# Altium schematic symbol library Cyberdeck.SchLib: 178 symbols (part 5 of 5)
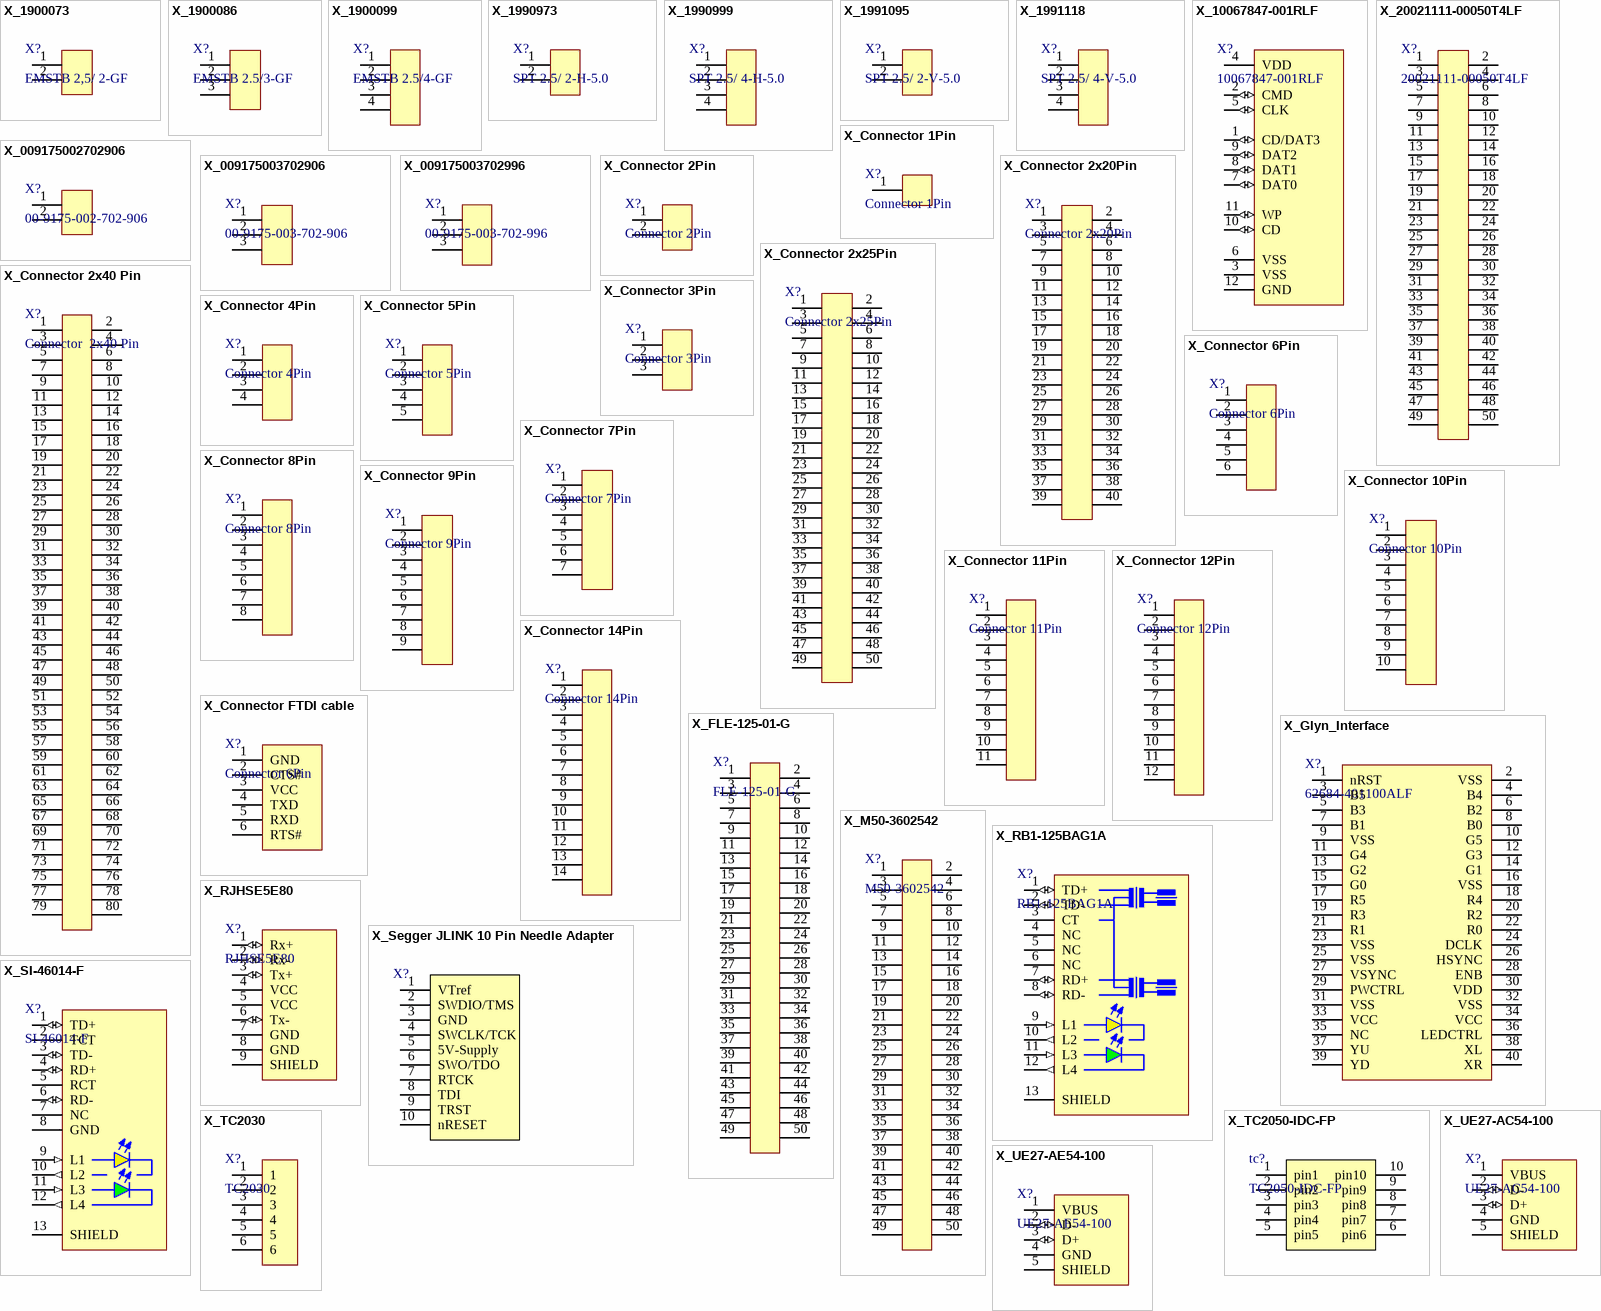
[diagram p9: symbols X_1900073 to X_UE27-AE54-100]

## X_UE27-AE54-100
designator X?, comment UE27-AE54-100
USB - A USB 2.0 Receptacle Connector 4 Position Through Hole, Vertical; Manufacturer 1: Amphenol; Supplier 1: Digi-Key; Supplier Part Number 1: UE27AE54100-ND; Manufacturer Part Number 1: UE27-AE54-100; ComponentLink1URL: https://datasheet.ciiva.com/23622/1682704-23622416.pdf; ComponentLink1Description: https://datasheet.ciiva.com/23622/1682704-23622416.pdf; ComponentLink2URL: https://datasheet.ciiva.com/851/ue27aex4x0x-851825.pdf; ComponentLink2Description: https://datasheet.ciiva.com/851/ue27aex4x0x-851825.pdf; ComponentLink3URL: https://datasheet.ciiva.com/4598/ue27aex4x0x-39597-4598819.pdf; ComponentLink3Description: https://datasheet.ciiva.com/4598/ue27aex4x0x-39597-4598819.pdf; ComponentLink4URL: https://datasheet.ciiva.com/16668/ue27aex4x0x-16668643.pdf; ComponentLink4Description: https://datasheet.ciiva.com/16668/ue27aex4x0x-16668643.pdf; ComponentLink5URL: https://datasheet.ciiva.com/3095/ue27aex4x0x-3095749.pdf; ComponentLink5Description: https://datasheet.ciiva.com/3095/ue27aex4x0x-3095749.pdf; ComponentLink6URL: https://datasheet.ciiva.com/8014/1682704-8014903.pdf; ComponentLink6Description: https://datasheet.ciiva.com/8014/1682704-8014903.pdf; ComponentLink7URL: https://datasheet.ciiva.com/16513/ue27aex4x0x-16513757.pdf; ComponentLink7Description: https://datasheet.ciiva.com/16513/ue27aex4x0x-16513757.pdf; Supplier 2: Digi-Key; Supplier Part Number 2: A121571-ND; ComponentLink8URL: https://datasheet.ciiva.com/16313/1734366-2-16313209.pdf; ComponentLink8Description: https://datasheet.ciiva.com/16313/1734366-2-16313209.pdf; ComponentLink9URL: https://datasheet.ciiva.com/851/eng-cd-1734366-c-851582.pdf; ComponentLink9Description: https://datasheet.ciiva.com/851/eng-cd-1734366-c-851582.pdf; Manufacturer 2: TE Connectivity; Manufacturer Part Number 2: 1734366-2; Supplier 3: Digi-Key; Supplier Part Number 3: 1175-1265-ND; Manufacturer 3: CNC Tech; Manufacturer Part Number 3: 1002-021-01000; ComponentLink10URL: https://datasheet.ciiva.com/6731/1002-021-01000-6731011.pdf; ComponentLink10Description: https://datasheet.ciiva.com/6731/1002-021-01000-6731011.pdf
footprint UE27AE54100
pins: 1 VBUS (power), 2 D- (io), 3 D+ (io), 4 GND (power), 5 SHIELD (power)

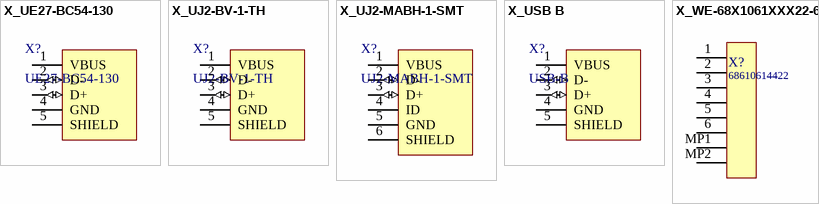
[diagram p5: symbols X_UE27-BC54-130 to X_WE-68X1061XXX22-6]

## X_UE27-BC54-130
designator X?, comment UE27-BC54-130
USB Connectors 4P PCB R/A TYPE B BLACK W/ REAR SHIELD; Manufacturer 1: Amphenol Commercial; Manufacturer Part Number 1: UE27-BC54-130; ComponentLink1URL: https://datasheet.ciiva.com/10945/ue27bcx4xxx-10945210.pdf; ComponentLink1Description: https://datasheet.ciiva.com/10945/ue27bcx4xxx-10945210.pdf; ComponentLink2URL: https://datasheet.ciiva.com/851/ue27bcx4xxx-851809.pdf; ComponentLink2Description: https://datasheet.ciiva.com/851/ue27bcx4xxx-851809.pdf; ComponentLink3URL: https://datasheet.ciiva.com/16668/ue27bcx4xxx-16668218.pdf; ComponentLink3Description: https://datasheet.ciiva.com/16668/ue27bcx4xxx-16668218.pdf; Supplier 1: Digi-Key; Supplier Part Number 1: UE27BC54130-ND
footprint UE27BC54130 (USB RCPT GOLD TYPE B R/A)
pins: 1 VBUS (power), 2 D- (io), 3 D+ (io), 4 GND (power), 5 SHIELD (power)

## X_UJ2-BV-1-TH
designator X?, comment UJ2-BV-1-TH
USB - B USB 2.0 Receptacle Connector 4 Position Through Hole, Vertical; Manufacturer: CUI; Supplier 1: Digi-Key; Supplier Part Number 1: 102-4000-ND; Manufacturer Part Number: UJ2-BV-1-TH; ComponentLink1URL: http://www.cui.com/product/resource/digikeypdf/uj2-bv-1-th.pdf; ComponentLink1Description: http://www.cui.com/product/resource/digikeypdf/uj2-bv-1-th.pdf
footprint UJ2-BV-1-TH
pins: 1 VBUS (power), 2 D- (io), 3 D+ (io), 4 GND (power), 5 SHIELD (power)

## X_UJ2-MABH-1-SMT
designator X?, comment UJ2-MABH-1-SMT
USB - mini AB USB 2.0 Receptacle Connector 5 Position Surface Mount, Right Angle, Horizontal; Manufacturer: CUI; Connector Type: Jack; Number of Contacts: 5; Supplier 1: Digi-Key; Supplier Part Number 1: 102-4004-2-ND; Manufacturer Part Number: UJ2-MABH-1-SMT; Stock 1: 725; Pricing 1: 1=0.84, 10=0.589, 100=0.3963, 750=0.2754, 1500=0.2295, 3750=0.20655, 5250=0.20349, 18750=0.19508, 37500=0.19125, 75000=0.18743 (USD); Mount: Surface Mount,Horizontal; Packaging: Tape and Reel; Gender: Receptacle; Orientation: Horizontal; Lead Free: Lead Free
footprint UJ2-MABH-SMT
pins: 1 VBUS (power), 2 D- (io), 3 D+ (io), 4 ID, 5 GND (power), 6 SHIELD (power)

## X_USB B
designator X?, comment USB-B
CONN COM TYPE B USB HORZ 4POS
footprint UE27BC54130 (USB RCPT GOLD TYPE B R/A)
pins: 1 VBUS (power), 2 D- (io), 3 D+ (io), 4 GND (power), 5 SHIELD (power)

## X_WE-68X1061XXX22-6
designator X?, comment 68610614422
SMT ZIF Connectors WR-FPC, Horizontal, Bottom Contact, pitch 1 mm, 6 pins; Manufacturer: Wurth Elektronik; Contact Resistance: 20mOhm; Rated Current: 1A; Pitch: 1mm; Withstanding Voltage: 500VAC; Working Voltage: 125VAC; Pin Number: 6; Operating Temperature: -25to85degC; Packaging: TapeandReel; Contact Design: BottomContact; Manufacturer URL: http://www.we-online.de; Part Number: 68610614422; Publisher: WurthElektronik; Package Reference: 68610614422; Datasheet URL: https://katalog.we-online.de/em/datasheet/68610614422.pdf; Mounting Technology: SMT; Orientation: Horizontal
footprint 68610614422 (ZIF Connectors, Horizontal, Bottom Contact, pitch 1mm, 6p)
pins: 1, 2, 3, 4, 5, 6, MP1, MP2